# EAGLE library part JTAG-EDGE-CON (library thermo)
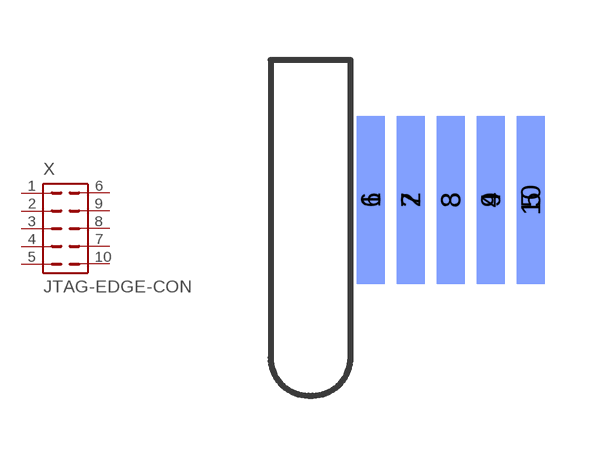
[diagram p11: symbol with the pads of DEBUG-CON; footprint DEBUG-CON]

Designator prefix X

## JTAG-EDGE-CON  [DEBUG-CON]
1  1  pas
2  2  pas
3  3  pas
4  4  pas
5  5  pas
6  6  pas
7  7  pas
8  8  pas
9  9  pas
10  10  pas

## Footprint DEBUG-CON (pad centres in mm)
smd 0.7 x 4.2: 1 -2,-3.5; 2 -1,-3.5; 3 0,-3.5; 4 1,-3.5; 5 2,-3.5
smd 0.7 x 4.2 bottom: 6 -2,-3.5; 7 -1,-3.5; 8 0,-3.5; 9 1,-3.5; 10 2,-3.5